# EAGLE library part BUCK-CONVERTER5V4A (library SO-8)
Buck converter used for IRISC Input voltage : 3-36V Output voltage : 5 V Output Current: 4A
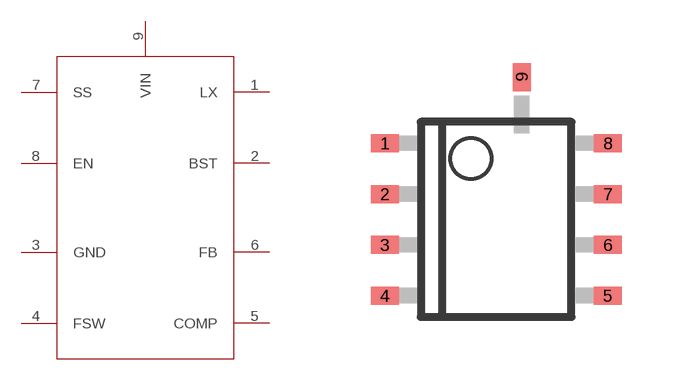
[diagram p0: symbol with the pads of SO-8; footprint SO-8]

Designator prefix BUCKCONVERTER

## BUCK-CONVERTER5V4A  [SO-8]
1  LX
2  BST  pas
3  GND  sup
4  FSW  pas
5  COMP  pas
6  FB  pas
7  SS  sup
8  EN
9  VIN  pwr

## Footprint SO-8 (pad centres in mm)
Small Outline SO-8 Packages Source: HCPL7221.pdf
smd 0.7 x 0.45: 1 -2.79,1.905; 2 -2.79,0.635; 3 -2.79,-0.635; 4 -2.79,-1.905; 5 2.79,-1.905; 6 2.79,-0.635; 7 2.79,0.635; 8 2.79,1.905
smd 0.45 x 0.7: 9 0.635,3.56